# EAGLE library part 483910003 (library My_Library)
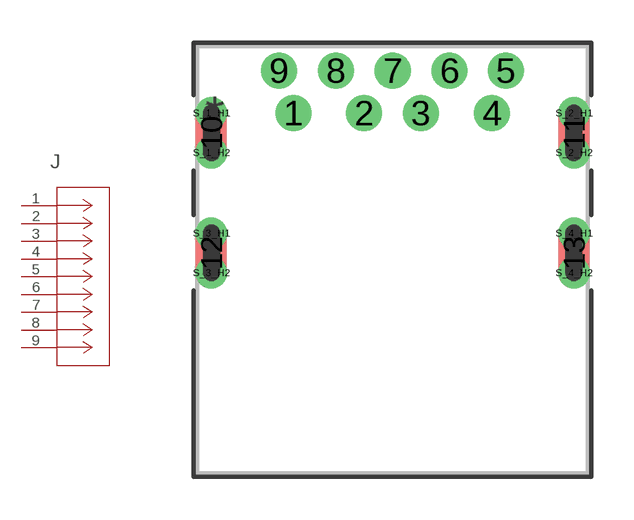
[diagram p18: symbol with the pads of CONN_483910003_MOL; footprint CONN_483910003_MOL]

Designator prefix J

## 483910003 (COPYRIGHT: Copyright (C) 2024 Ultra Librarian. All rights reserved.; MANUFACTURER_PART_NUMBER: 483910003; MFR_NAME: Molex Connector Corporation; TYPE: USB, DVI, HDMI, Connectors)  [CONN_483910003_MOL]
1  VBUS  pas
2  D-  pas
3  D+  pas
4  GND  pas
5  STDA_SSRX-  pas
6  STDA_SSRX+  pas
7  GND_DRAIN  pas
8  STDA_SSTX-  pas
9  STDA_SSTX+  pas

## Footprint CONN_483910003_MOL (pad centres in mm)
drill 0.762 pad 1.27: 1 0,0; 2 2.489,0; 3 4.496,0; 4 7.01,0; 5 7.493,1.499; 6 5.512,1.499; 7 3.505,1.499; 8 1.499,1.499; 9 -0.508,1.499
smd 1.118 x 2.515: 10 -2.9,-0.7; 11 9.9,-0.7; 12 -2.9,-4.95; 13 9.9,-4.95
drill 0.61 pad 0.61: S_1_H1 -2.896,0; S_1_H2 -2.896,-1.397; S_2_H1 9.906,0; S_2_H2 9.906,-1.397; S_3_H1 -2.896,-4.242; S_3_H2 -2.896,-5.639; S_4_H1 9.906,-4.242; S_4_H2 9.906,-5.639